# Altium footprint library PCB - CONNECTOR - MOLEX - MOLEX MICRO-FIT 3.0 0436500401.PcbLib: 1 footprints
Each footprint in its own frame and in the unit in brackets; x right, y up, seen from the top. Pads: shape width x height; smd on the part's side, far side on the other; paste and mask are expansions set on the pad; w line width, h text height; cw(c..) or ccw(c..) is an arc to the next point about the centre after c.
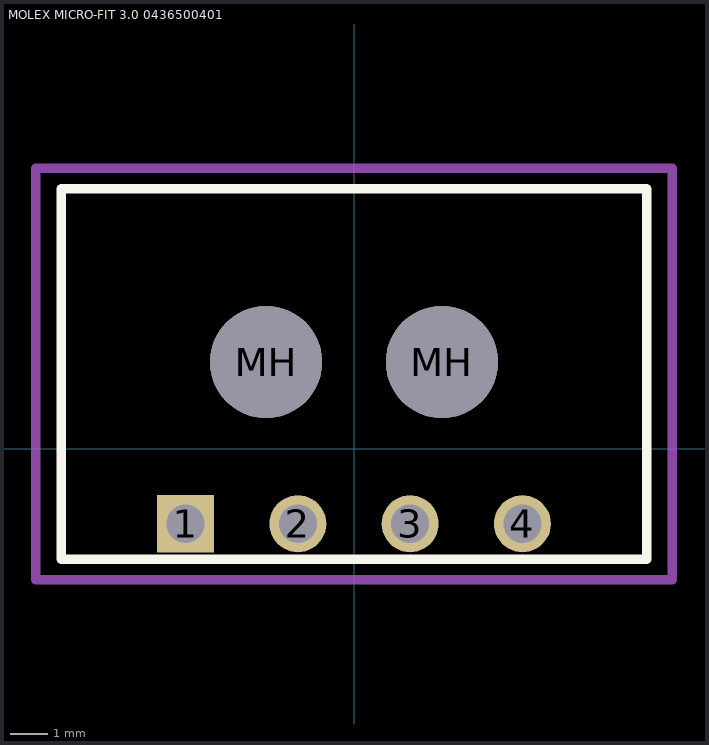
[diagram p0: the footprint, top view; thin cyan lines are the x and y axes]

## MOLEX MICRO-FIT 3.0 0436500401 [mm]
height 5.87
pads (6):
  rect 1.524x1.524 hole 1.02 paste-40: 1(-4.5,-2)
  round 1.524 hole 1.02 paste-40: 2(-1.5,-2) 3(1.5,-2) 4(4.5,-2)
  round 3 hole 3 unplated paste-40: MH(-2.35,2.32) MH(2.35,2.32)
Top Overlay:
  lines w0.254: -7.825,-2.95 7.825,-2.95 7.825,6.95 -7.825,6.95 -7.825,-2.95
Top Courtyard:
  lines w0.254: -8.5,-3.5 8.5,-3.5 8.5,7.5 -8.5,7.5 -8.5,-3.5
3D body "436500401 v2.step": height 5.64, standoff -3.27, extent -7.825,-2.95 7.825,6.95